# Altium schematic symbol library MAX3485.SchLib: 1 symbol
Pins are listed as number, name and electrical type; pins without a type are passive.

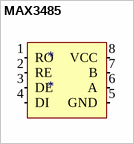
[diagram p0: symbol MAX3485]

## MAX3485
designator *
footprint MAX3485 (SOP, 8-Leads, Body 4.90x3.90mm, Pitch 1.27mm, IPC Medium Density)
pins: 1 RO (power), 2 RE (power), 3 DE (power), 4 DI (power), 5 GND (power), 6 A (power), 7 B (power), 8 VCC (power)